# Altium schematic symbol library ML605Library.SCHLIB: 148 symbols (part 2 of 2)
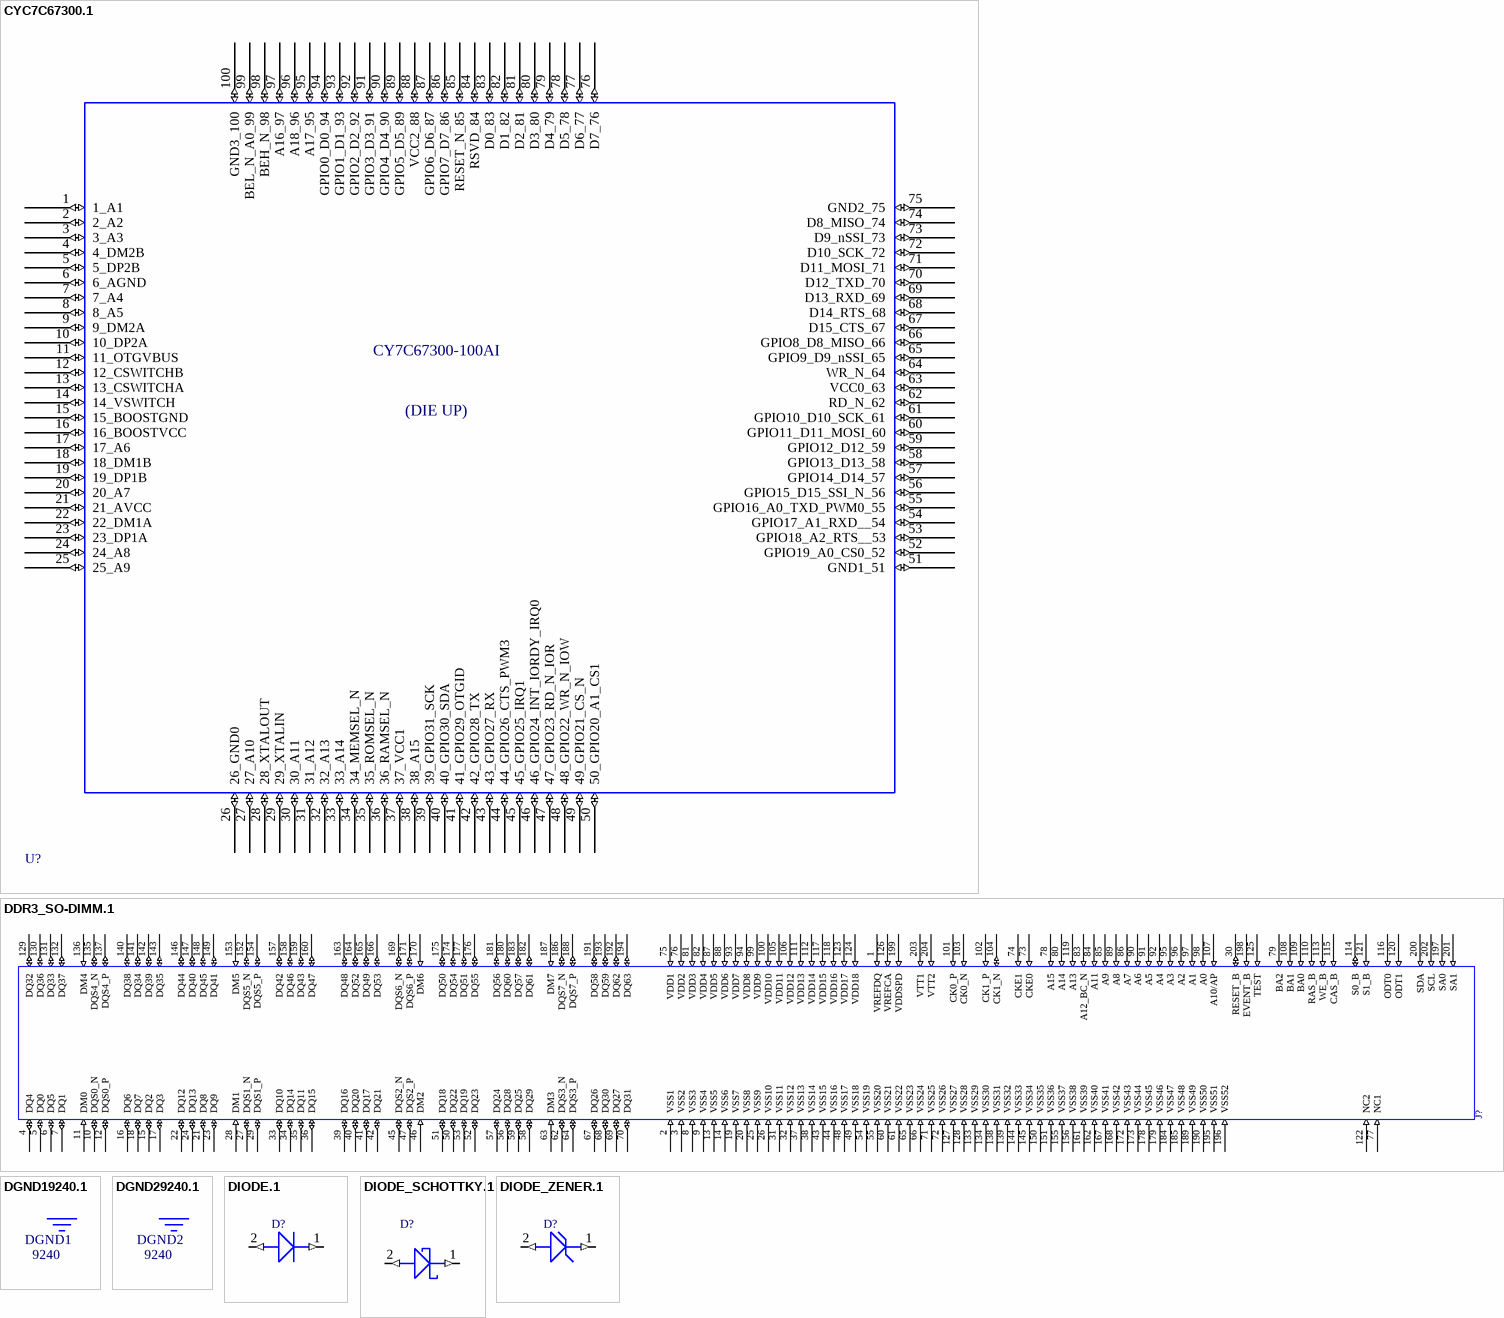
[diagram p25: symbols CYC7C67300.1 to DIODE_ZENER.1]

## CYC7C67300.1
designator U?, comment CY7C67300-TQFP100  (value not drawn)
PKG_TYPE: TQFP-100; LEVEL: STD; DEVICE: CY7C67300-TQFP100
footprint TQFP-100
pins: 1 1_A1 (io), 2 2_A2 (io), 3 3_A3 (io), 4 4_DM2B (io), 5 5_DP2B (io), 6 6_AGND (io), 7 7_A4 (io), 8 8_A5 (io), 9 9_DM2A (io), 10 10_DP2A (io), 11 11_OTGVBUS (io), 12 12_CSWITCHB (io), 13 13_CSWITCHA (io), 14 14_VSWITCH (io), 15 15_BOOSTGND (io), 16 16_BOOSTVCC (io), 17 17_A6 (io), 18 18_DM1B (io), 19 19_DP1B (io), 20 20_A7 (io), 21 21_AVCC (io), 22 22_DM1A (io), 23 23_DP1A (io), 24 24_A8 (io), 25 25_A9 (io), 26 26_GND0 (io), 27 27_A10 (io), 28 28_XTALOUT (io), 29 29_XTALIN (io), 30 30_A11 (io), 31 31_A12 (io), 32 32_A13 (io), 33 33_A14 (io), 34 34_MEMSEL_N (io), 35 35_ROMSEL_N (io), 36 36_RAMSEL_N (io), 37 37_VCC1 (io), 38 38_A15 (io), 39 39_GPIO31_SCK (io), 40 40_GPIO30_SDA (io), 41 41_GPIO29_OTGID (io), 42 42_GPIO28_TX (io), 43 43_GPIO27_RX (io), 44 44_GPIO26_CTS_PWM3 (io), 45 45_GPIO25_IRQ1 (io), 46 46_GPIO24_INT_IORDY_IRQ0 (io), 47 47_GPIO23_RD_N_IOR (io), 48 48_GPIO22_WR_N_IOW (io), 49 49_GPIO21_CS_N (io), 50 50_GPIO20_A1_CS1 (io), 51 GND1_51 (io), 52 GPIO19_A0_CS0_52 (io), 53 GPIO18_A2_RTS__53 (io), 54 GPIO17_A1_RXD__54 (io), 55 GPIO16_A0_TXD_PWM0_55 (io), 56 GPIO15_D15_SSI_N_56 (io), 57 GPIO14_D14_57 (io), 58 GPIO13_D13_58 (io), 59 GPIO12_D12_59 (io), 60 GPIO11_D11_MOSI_60 (io), 61 GPIO10_D10_SCK_61 (io), 62 RD_N_62 (io), 63 VCC0_63 (io), 64 WR_N_64 (io), 65 GPIO9_D9_nSSI_65 (io), 66 GPIO8_D8_MISO_66 (io), 67 D15_CTS_67 (io), 68 D14_RTS_68 (io), 69 D13_RXD_69 (io), 70 D12_TXD_70 (io), 71 D11_MOSI_71 (io), 72 D10_SCK_72 (io), 73 D9_nSSI_73 (io), 74 D8_MISO_74 (io), 75 GND2_75 (io), 76 D7_76 (io), 77 D6_77 (io), 78 D5_78 (io), 79 D4_79 (io), 80 D3_80 (io), 81 D2_81 (io), 82 D1_82 (io), 83 D0_83 (io), 84 RSVD_84 (io), 85 RESET_N_85 (io), 86 GPIO7_D7_86 (io), 87 GPIO6_D6_87 (io), 88 VCC2_88 (io), 89 GPIO5_D5_89 (io), 90 GPIO4_D4_90 (io), 91 GPIO3_D3_91 (io), 92 GPIO2_D2_92 (io), 93 GPIO1_D1_93 (io), 94 GPIO0_D0_94 (io), 95 A17_95 (io), 96 A18_96 (io), 97 A16_97 (io), 98 BEH_N_98 (io), 99 BEL_N_A0_99 (io), 100 GND3_100 (io)
text: CY7C67300-100AI; (DIE UP)

## DDR3_SO-DIMM.1
designator J?, comment DDR3_SO-DIMM  (value not drawn)
LEVEL: STD; MANF_P/N: AS0A626-U2SN-7F; MANF: FOXCONN; PKG_TYPE: DDR3_SO-DIMM; DEVICE: DDR3_SO-DIMM; DATASHEET: \\FENPHEN\AFX\AFX\BOARD_PROJECTS\LIBRARY\DATASHEETS\CONNECTOR\AS0A626-U2SN-7F_317-0000-1243_D.PDF
footprint DDR3_SO-DIMM
pins: 1 VREFDQ (in), 2 VSS1 (in), 3 VSS2 (in), 4 DQ4 (io), 5 DQ0 (io), 6 DQ5 (io), 7 DQ1 (io), 8 VSS3 (in), 9 VSS4 (in), 10 DQS0_N (io), 11 DM0 (in), 12 DQS0_P (io), 13 VSS5 (in), 14 VSS6 (in), 15 DQ2 (io), 16 DQ6 (io), 17 DQ3 (io), 18 DQ7 (io), 19 VSS7 (in), 20 VSS8 (in), 21 DQ8 (io), 22 DQ12 (io), 23 DQ9 (io), 24 DQ13 (io), 25 VSS9 (in), 26 VSS10 (in), 27 DQS1_N (io), 28 DM1 (in), 29 DQS1_P (io), 30 RESET_B (io), 31 VSS11 (in), 32 VSS12 (in), 33 DQ10 (io), 34 DQ14 (io), 35 DQ11 (io), 36 DQ15 (io), 37 VSS13 (in), 38 VSS14 (in), 39 DQ16 (io), 40 DQ20 (io), 41 DQ17 (io), 42 DQ21 (io), 43 VSS15 (in), 44 VSS16 (in), 45 DQS2_N (io), 46 DM2 (in), 47 DQS2_P (io), 48 VSS17 (in), 49 VSS18 (in), 50 DQ22 (io), 51 DQ18 (io), 52 DQ23 (io), 53 DQ19 (io), 54 VSS19 (in), 55 VSS20 (in), 56 DQ28 (io), 57 DQ24 (io), 58 DQ29 (io), 59 DQ25 (io), 60 VSS21 (in), 61 VSS22 (in), 62 DQS3_N (io), 63 DM3 (in), 64 DQS3_P (io), 65 VSS23 (in), 66 VSS24 (in), 67 DQ26 (io), 68 DQ30 (io), 69 DQ27 (io), 70 DQ31 (io), 71 VSS25 (in), 72 VSS26 (in), 73 CKE0 (in), 74 CKE1 (in), 75 VDD1 (in), 76 VDD2 (in), 77 NC1 (in), 78 A15 (in), 79 BA2 (in), 80 A14 (in), 81 VDD3 (in), 82 VDD4 (in), 83 A12_BC_N (in), 84 A11 (in), 85 A9 (in), 86 A7 (in), 87 VDD5 (in), 88 VDD6 (in), 89 A8 (in), 90 A6 (in), 91 A5 (in), 92 A4 (in), 93 VDD7 (in), 94 VDD8 (in), 95 A3 (in), 96 A2 (in), 97 A1 (in), 98 A0 (in), 99 VDD9 (in), 100 VDD10 (in), 101 CK0_P (in), 102 CK1_P (in), 103 CK0_N (in), 104 CK1_N (io), 105 VDD11 (in), 106 VDD12 (in), 107 A10/AP (in), 108 BA1 (in), 109 BA0 (in), 110 RAS_B (in), 111 VDD13 (in), 112 VDD14 (in), 113 WE_B (in), 114 S0_B (io), 115 CAS_B (in), 116 ODT0 (in), 117 VDD15 (in), 118 VDD16 (in), 119 A13 (in), 120 ODT1 (in), 121 S1_B (in), 122 NC2 (in), 123 VDD17 (in), 124 VDD18 (in), 125 TEST (in), 126 VREFCA (in), 127 VSS27 (in), 128 VSS28 (in), 129 DQ32 (io), 130 DQ36 (io), 131 DQ33 (io), 132 DQ37 (io), 133 VSS29 (in), 134 VSS30 (in), 135 DQS4_N (io), 136 DM4 (in), 137 DQS4_P (io), 138 VSS31 (in), 139 VSS32 (in), 140 DQ38 (io), 141 DQ34 (io), 142 DQ39 (io), 143 DQ35 (io), 144 VSS33 (in), 145 VSS34 (in), 146 DQ44 (io), 147 DQ40 (io), 148 DQ45 (io), 149 DQ41 (io), 150 VSS35 (in), 151 VSS36 (in), 152 DQS5_N (io), 153 DM5 (in), 154 DQS5_P (io), 155 VSS37 (in), 156 VSS38 (in), 157 DQ42 (io), 158 DQ46 (io), 159 DQ43 (io), 160 DQ47 (io), 161 VSS39 (in), 162 VSS40 (in), 163 DQ48 (io), 164 DQ52 (io), 165 DQ49 (io), 166 DQ53 (io), 167 VSS41 (in), 168 VSS42 (in), 169 DQS6_N (io), 170 DM6 (in), 171 DQS6_P (io), 172 VSS43 (in), 173 VSS44 (in), 174 DQ54 (io), 175 DQ50 (io), 176 DQ55 (io), 177 DQ51 (io), 178 VSS45 (in), 179 VSS46 (in), 180 DQ60 (io), 181 DQ56 (io), 182 DQ61 (io), 183 DQ57 (io), 184 VSS47 (in), 185 VSS48 (in), 186 DQS7_N (io), 187 DM7 (in), 188 DQS7_P (io), 189 VSS49 (in), 190 VSS50 (in), 191 DQ58 (io), 192 DQ62 (io), 193 DQ59 (io), 194 DQ63 (io), 195 VSS51 (in), 196 VSS52 (in), 197 SA0 (in), 198 EVENT_B (in), 199 VDDSPD (in), 200 SDA (in), 201 SA1 (in), 202 SCL (in), 203 VTT1 (in), 204 VTT2 (in)

## DGND19240.1
designator *, comment DGND1_9240  (value not drawn)
DEVICE: DGND1_9240; NETNAME: DGND1_9240
text: DGND1; 9240

## DGND29240.1
designator *, comment DGND2_9240  (value not drawn)
DEVICE: DGND2_9240; NETNAME: DGND2_9240
text: DGND2; 9240

## DIODE.1
designator D?, comment DIODE  (value not drawn)
DEVICE: DIODE
pins: 1 CATHODE (out), 2 ANODE (out)

## DIODE_SCHOTTKY.1
designator D?, comment DIODE_SCHOTTKY  (value not drawn)
PKG_TYPE: SOT-23; DEVICE: DIODE_SCHOTTKY
footprint SOT-23
pins: 1 CATHODE (out), 2 ANODE (out)

## DIODE_ZENER.1
designator D?, comment DIODE_ZENER  (value not drawn)
DEVICE: DIODE_ZENER
pins: 1 CATHODE (out), 2 ANODE (out)

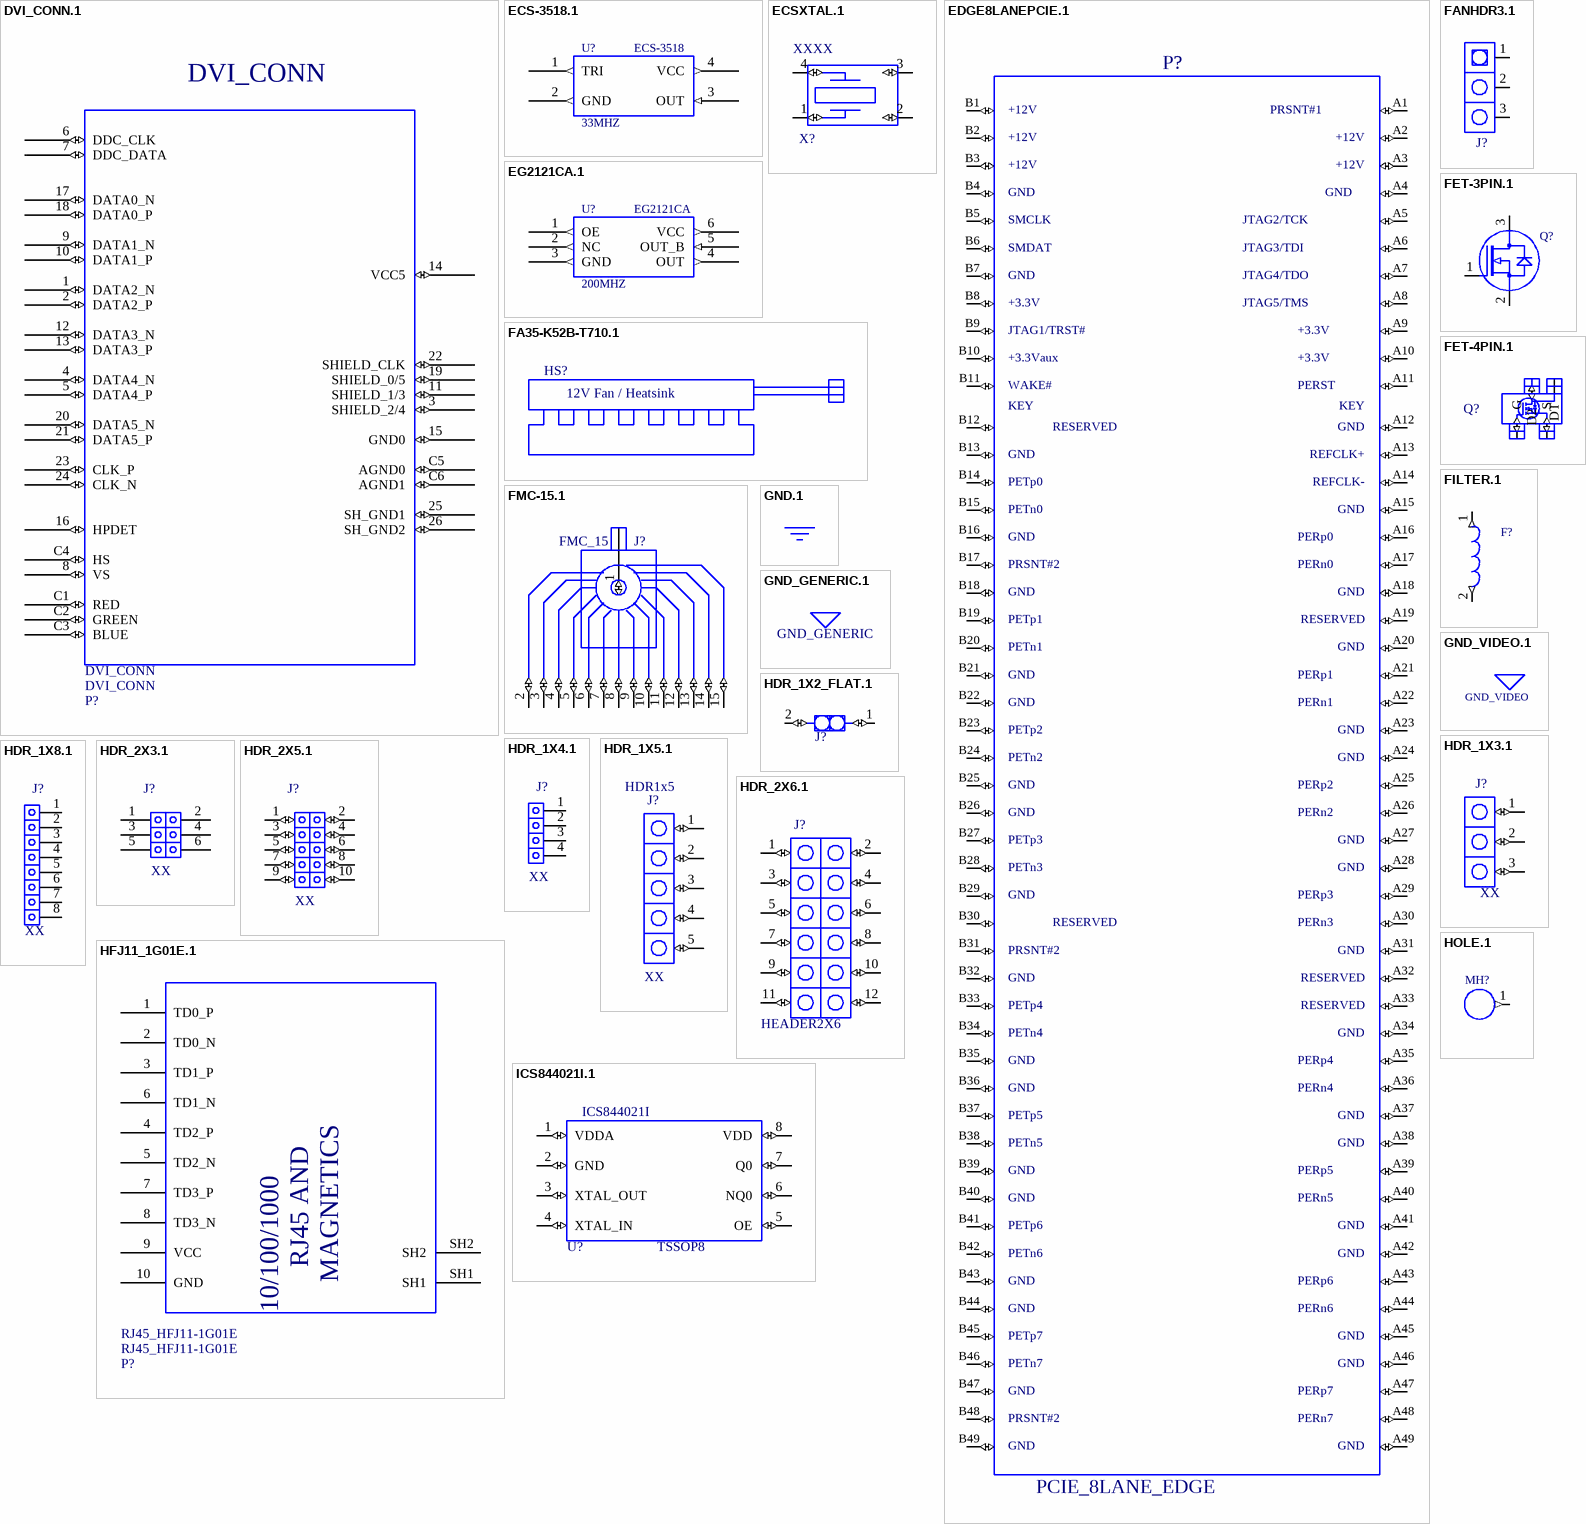
[diagram p20: symbols DVI_CONN.1 to ICS844021I.1]

## DVI_CONN.1
designator P?, comment DVI_CONN
LEVEL: STD; PKG_TYPE: DVI_CONN; DEVICE: DVI_CONN
footprint DVI_CONN
pins: 1 DATA2_N (io), 2 DATA2_P (io), 3 SHIELD_2/4 (io), 4 DATA4_N (io), 5 DATA4_P (io), 6 DDC_CLK (io), 7 DDC_DATA (io), 8 VS (io), 9 DATA1_N (io), 10 DATA1_P (io), 11 SHIELD_1/3 (io), 12 DATA3_N (io), 13 DATA3_P (io), 14 VCC5 (io), 15 GND0 (io), 16 HPDET (io), 17 DATA0_N (io), 18 DATA0_P (io), 19 SHIELD_0/5 (io), 20 DATA5_N (io), 21 DATA5_P (io), 22 SHIELD_CLK (io), 23 CLK_P (io), 24 CLK_N (io), 25 SH_GND1 (io), 26 SH_GND2 (io), C1 RED (io), C2 GREEN (io), C3 BLUE (io), C4 HS (io), C5 AGND0 (io), C6 AGND1 (io)

## ECS-3518.1
designator U?, comment ECS-3518  value 33MHZ
PKG_TYPE: EG2121CA; DEVICE: ECS-3518
footprint EG2121CA
pins: 1 TRI (out), 2 GND (out), 3 OUT (in), 4 VCC (out)

## ECSXTAL.1
designator X?, comment XXXX
VALUE: MHZ?; LEVEL: STD; MANF_PN: XXXX; MANF: XXXX; DEVICE: XXXX; PKG_TYPE: XXXX
footprint XXXX
pins: 1 P1 (io), 2 P2 (io), 3 P3 (io), 4 P4 (io)

## EDGE8LANEPCIE.1
designator P?, comment PCIE_8LANE_EDGE
LEVEL: STD; PKG_TYPE: PCIE_8LANE_EDGE; DEVICE: PCIE_8LANE_EDGE
footprint PCIE_8LANE_EDGE
pins: A1 (io), A2 (io), A3 (io), A4 (io), A5 (io), A6 (io), A7 (io), A8 (io), A9 (io), A10 (io), A11 (io), A12 (io), A13 (io), A14 (io), A15 (io), A16 (io), A17 (io), A18 (io), A19 (io), A20 (io), A21 (io), A22 (io), A23 (io), A24 (io), A25 (io), A26 (io), A27 (io), A28 (io), A29 (io), A30 (io), A31 (io), A32 (io), A33 (io), A34 (io), A35 (io), A36 (io), A37 (io), A38 (io), A39 (io), A40 (io), A41 (io), A42 (io), A43 (io), A44 (io), A45 (io), A46 (io), A47 (io), A48 (io), A49 (io), B1 (io), B2 (io), B3 (io), B4 (io), B5 (io), B6 (io), B7 (io), B8 (io), B9 (io), B10 (io), B11 (io), B12 (io), B13 (io), B14 (io), B15 (io), B16 (io), B17 (io), B18 (io), B19 (io), B20 (io), B21 (io), B22 (io), B23 (io), B24 (io), B25 (io), B26 (io), B27 (io), B28 (io), B29 (io), B30 (io), B31 (io), B32 (io), B33 (io), B34 (io), B35 (io), B36 (io), B37 (io), B38 (io), B39 (io), B40 (io), B41 (io), B42 (io), B43 (io), B44 (io), B45 (io), B46 (io), B47 (io), B48 (io), B49 (io)
text: +12V; PRSNT#1; GND; SMCLK; JTAG2/TCK; SMDAT; JTAG3/TDI; JTAG4/TDO; +3.3V; JTAG5/TMS; JTAG1/TRST#; +3.3Vaux; WAKE#; PERST; KEY; RESERVED; REFCLK+; PETp0; REFCLK-; PETn0; PERp0; PRSNT#2; PERn0; PETp1; PETn1; PERp1; PERn1; PETp2; PETn2; PERp2; PERn2; PETp3; PETn3; PERp3; PERn3; PETp4; PETn4; PERp4; PERn4; PETp5; PETn5; PERp5; PERn5; PETp6; PETn6; PERp6; PERn6; PETp7; PETn7; PERp7; PERn7

## EG2121CA.1
designator U?, comment EG2121CA  value 200MHZ
MANUF_P/N: EG2121CA; PKG_TYPE: EG2121CA; DEVICE: EG2121CA
footprint EG2121CA
pins: 1 OE (out), 2 NC (out), 3 GND (out), 4 OUT (out), 5 OUT_B (in), 6 VCC (out)

## FA35-K52B-T710.1
designator HS?, comment FAN_HEATSINK  (value not drawn)
CLASS: MECHANICAL; MANF_P/N: FA35-K52B-T710; MANF: RADIAN; LEVEL: STD; DATASHEET: \\FENPHEN\AFX\AFX\BOARD_PROJECTS\LIBRARY\DATASHEETS\HEATSINKS\RADIANHEATSINKS_FSERIES.PDF; DEVICE: FAN_HEATSINK; DESC: FAN_HEATSINK
text: 12V Fan / Heatsink

## FANHDR3.1
designator J?, comment FANHDR3  (value not drawn)
MANF: MOLEX; LEVEL: STD; MANF_P/N: 22-11-2032; MANF_PN: 22-11-2032; PKG_TYPE: FANHDR3; DEVICE: FANHDR3
footprint FANHDR3
pins: 1 P1 (io), 2 P2 (io), 3 P3 (io)

## FET-3PIN.1
designator Q?, comment FET-3PIN  (value not drawn)
DEVICE: FET-3PIN
pins: 1 GATE, 2 SOURCE, 3 DRAIN

## FET-4PIN.1
designator Q?, comment NDT3055L  (value not drawn)
VALUE: IN?; PKG_TYPE: SOT223; DEVICE: NDT3055L
footprint SOT223
pins: 1 G (io), 2 D2 (io), 3 S (io), 4 DT (io)
text: 0

## FILTER.1
designator F?, comment FILTER  (value not drawn)
DEVICE: FILTER
pins: 1 (out), 2 (out)

## FMC-15.1
designator J?, comment FMC_15
LEVEL: STD; PKG_TYPE: FMC_15; DEVICE: FMC_15
footprint FMC_15
pins: 1 (io), 2 (io), 3 (io), 4 (io), 5 (io), 6 (io), 7 (io), 8 (io), 9 (io), 10 (io), 11 (io), 12 (io), 13 (io), 14 (io), 15 (io)

## GND.1
designator *  (value not drawn)
NETNAME: GND

## GND_GENERIC.1
designator *, comment GND_GENERIC
VOLTAGE: ?V; PKG_TYPE: XXXX; VALUE: UF?; DEVICE: GND_GENERIC; MANFP/N: XXXX; MANF: XXXX; DIST: XXXX; PRICE: XXXX; TOLERANCE: XXXX; NETNAME: GND_GENERIC
footprint XXXX

## GND_VIDEO.1
designator *, comment GND_VIDEO
VOLTAGE: ?V; PKG_TYPE: XXXX; VALUE: UF?; DEVICE: GND_VIDEO; MANFP/N: XXXX; MANF: XXXX; DIST: XXXX; PRICE: XXXX; TOLERANCE: XXXX; NETNAME: GND_VIDEO
footprint XXXX

## HDR_1X2_FLAT.1
designator J?, comment HDR_1X2  (value not drawn)
MANF: SULLINS ELECTRONICS CORP.; MANF_P/N: PBC36DAAN; LEVEL: STD; PKG_TYPE: HDR_1X2; DEVICE: HDR_1X2
footprint HDR_1X2
pins: 1 P1 (io), 2 P2 (io)

## HDR_1X3.1
designator J?, comment value XX  (hidden comment: HDR_1X3)
LEVEL: STD; DEVICE: HDR_1X3; PKG_TYPE: HDR_1X3
footprint HDR_1X3
pins: 1 P1 (io), 2 P2 (io), 3 P3 (io)

## HDR_1X4.1
designator J?, comment value XX  (hidden comment: HDR_1X4)
LEVEL: STD; PKG_TYPE: HDR_1X4; PART_SPEC: HDR_1X4; DEVICE: HDR_1X4
footprint HDR_1X4
pins: 1, 2, 3, 4

## HDR_1X5.1
designator J?, comment value XX  (hidden comment: HDR_1X5)
LEVEL: STD; DEVICE: HDR_1X5
pins: 1 P1 (io), 2 P2 (io), 3 P3 (io), 4 P4 (io), 5 P5 (io)
text: HDR1x5

## HDR_1X8.1
designator J?, comment value XX  (hidden comment: HDR_1X8)
LEVEL: STD; PART_SPEC: HDR_1X8; DEVICE: HDR_1X8
pins: 1, 2, 3, 4, 5, 6, 7, 8

## HDR_2X3.1
designator J?, comment value XX  (hidden comment: HDR_2X3)
PART_SPEC: HDR2X3; LEVEL: STD; PKG_TYPE: HDR_2X3; DEVICE: HDR_2X3
footprint HDR_2X3
pins: 1, 2, 3, 4, 5, 6

## HDR_2X5.1
designator J?, comment value XX  (hidden comment: HDR_2X5)
PART_SPEC: HDR2X5; LEVEL: STD; PKG_TYPE: HDR_2X5; DEVICE: HDR_2X5
footprint HDR_2X5
pins: 1 P1 (io), 2 P2 (io), 3 P3 (io), 4 P4 (io), 5 P5 (io), 6 P6 (io), 7 P7 (io), 8 P8 (io), 9 P9 (io), 10 P10 (io)

## HDR_2X6.1
designator J?, comment HEADER2X6
MANF_PN: XXX; LEVEL: STD; PKG_TYPE: HDR_2X6; MANF: XXX; DEVICE: HEADER2X6
footprint HDR_2X6
pins: 1 P1 (io), 2 P2 (io), 3 P3 (io), 4 P4 (io), 5 P5 (io), 6 P6 (io), 7 P7 (io), 8 P8 (io), 9 P9 (io), 10 P10 (io), 11 P11 (io), 12 P12 (io)

## HFJ11_1G01E.1
designator P?, comment RJ45_HFJ11-1G01E
LEVEL: STD; DEVICE: RJ45_HFJ11-1G01E; PKG_TYPE: RJ45_HFJ11-1G01E
footprint RJ45_HFJ11-1G01E
pins: 1 TD0_P, 2 TD0_N, 3 TD1_P, 4 TD2_P, 5 TD2_N, 6 TD1_N, 7 TD3_P, 8 TD3_N, 9 VCC, 10 GND, SH1, SH2
text: RJ45 AND; MAGNETICS; 10/100/1000

## HOLE.1
designator MH?, comment HOLE  (value not drawn)
DEVICE: HOLE
pins: 1 (out)

## ICS844021I.1
designator U?, comment ICS844021I  PKG_TYPE: TSSOP8
LEVEL: STD; PART_SPEC: ICS844021I; DEVICE: ICS844021I
footprint TSSOP8
pins: 1 VDDA (io), 2 GND (io), 3 XTAL_OUT (io), 4 XTAL_IN (io), 5 OE (io), 6 NQ0 (io), 7 Q0 (io), 8 VDD (io)

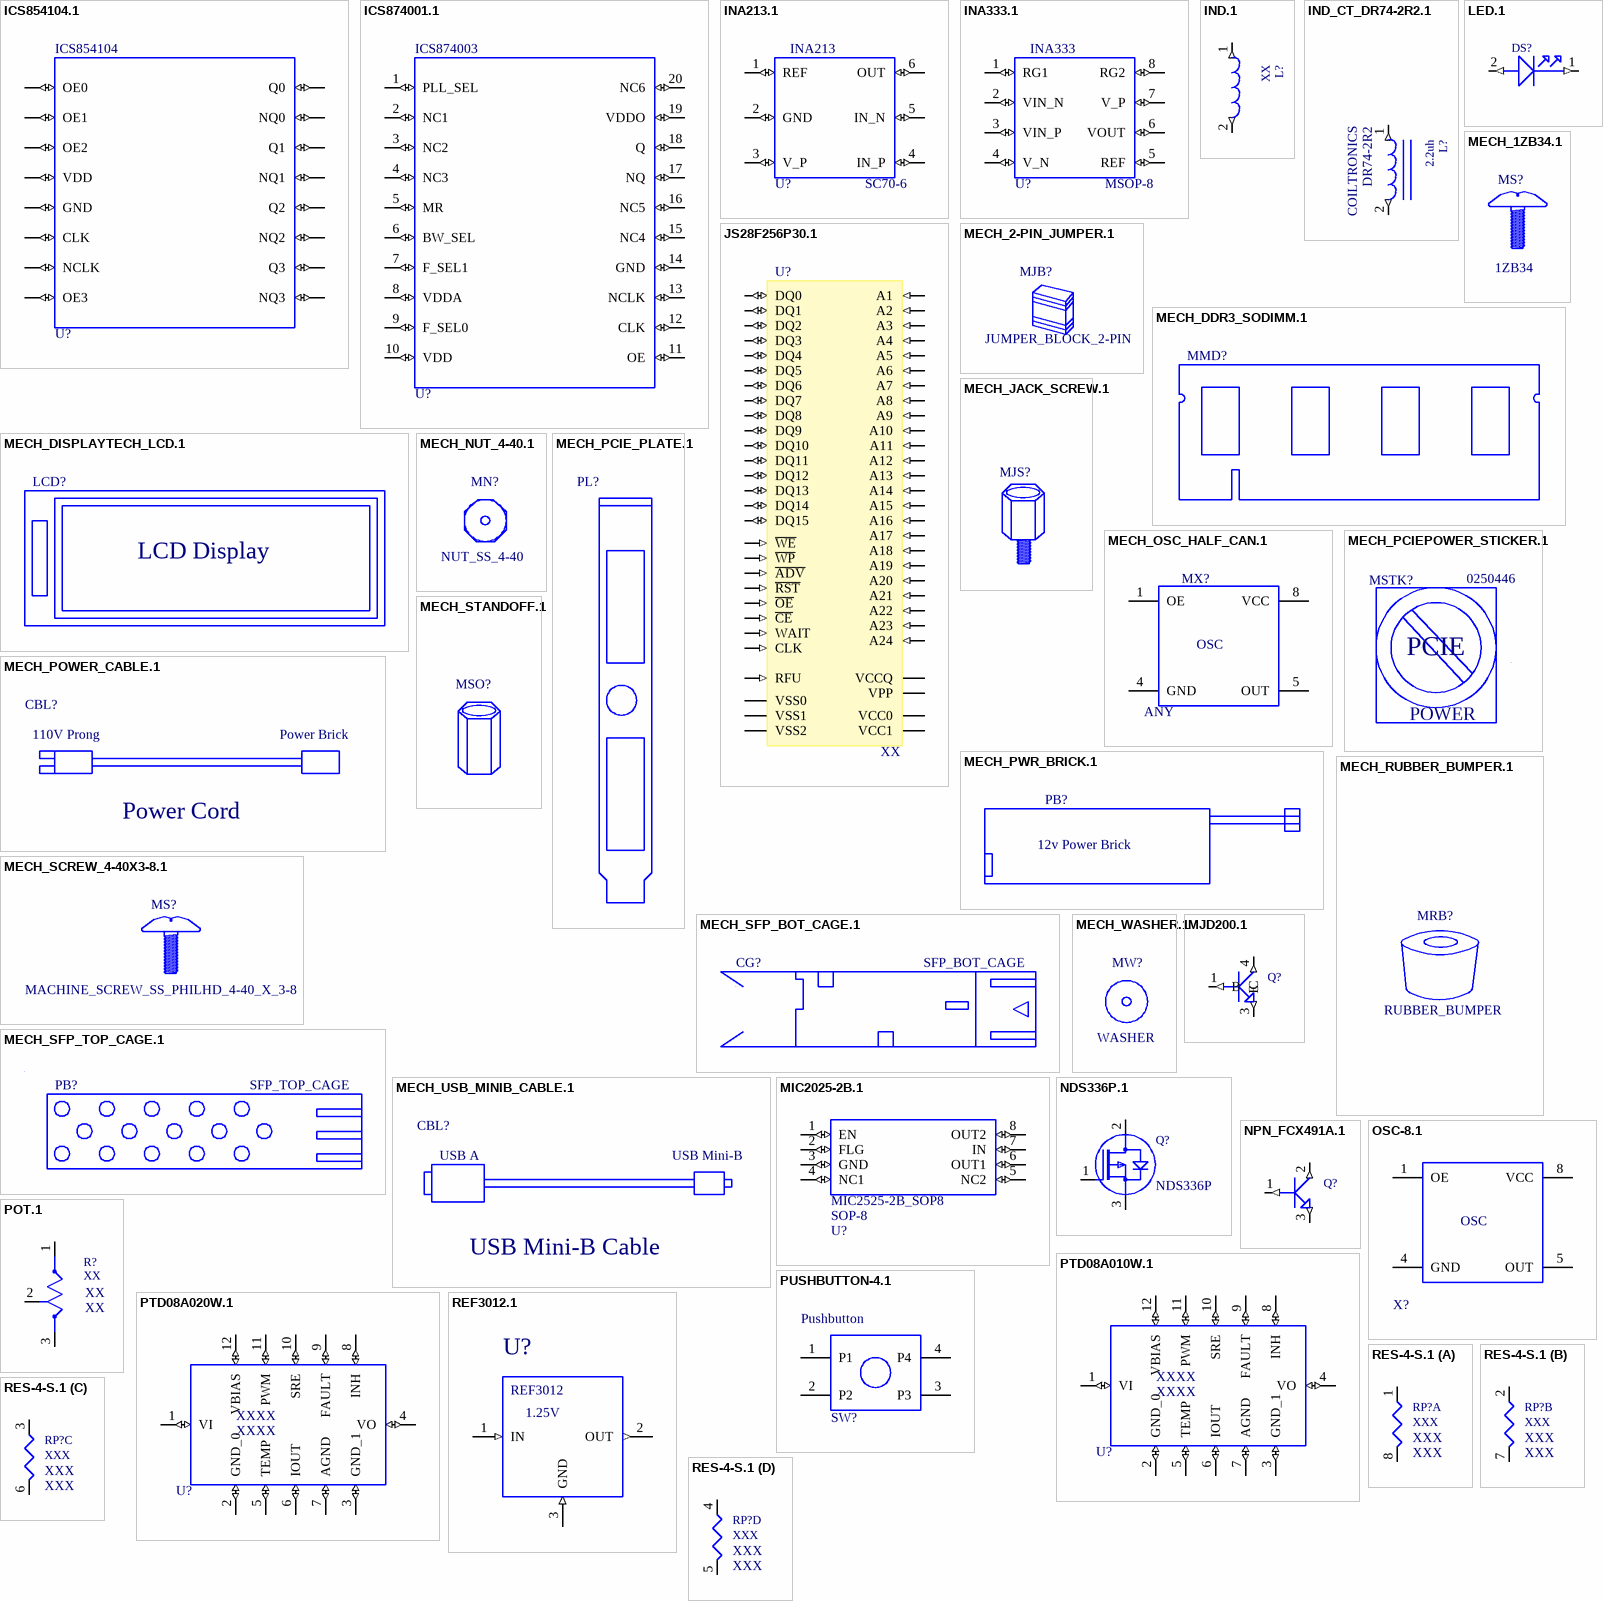
[diagram p21: symbols ICS854104.1 to RES-4-S.1]

## ICS854104.1
designator U?, comment ICS854104
MANF_PN: ICS854104AGLFT; MANF: ICS; PKG_TYPE: TSSOP-16; LEVEL: STD; DEVICE: ICS854104
footprint TSSOP-16
pins: 1 OE0 (io), 2 OE1 (io), 3 OE2 (io), 4 VDD (io), 5 GND (io), 6 CLK (io), 7 NCLK (io), 8 OE3 (io), 9 NQ3 (io), 10 Q3 (io), 11 NQ2 (io), 12 Q2 (io), 13 NQ1 (io), 14 Q1 (io), 15 NQ0 (io), 16 Q0 (io)

## ICS874001.1
designator U?, comment ICS874003
MANF_P/N: ICS874003BG-05LF; MANF: ICS; LEVEL: STD; PKG_TYPE: TSSOP-20; DEVICE: ICS874003
footprint TSSOP-20
pins: 1 PLL_SEL (io), 2 NC1 (io), 3 NC2 (io), 4 NC3 (io), 5 MR (io), 6 BW_SEL (io), 7 F_SEL1 (io), 8 VDDA (io), 9 F_SEL0 (io), 10 VDD (io), 11 OE (io), 12 CLK (io), 13 NCLK (io), 14 GND (io), 15 NC4 (io), 16 NC5 (io), 17 NQ (io), 18 Q (io), 19 VDDO (io), 20 NC6 (io)

## INA213.1
designator U?, comment INA213  PKG_TYPE: SC70-6
MANF_P/N: INA213AIDCKT; LEVEL: STD; DEVICE: INA213
footprint SC70-6
pins: 1 REF (io), 2 GND (io), 3 V_P (io), 4 IN_P (io), 5 IN_N (io), 6 OUT (io)

## INA333.1
designator U?, comment INA333  PKG_TYPE: MSOP-8
LEVEL: STD; DEVICE: INA333
footprint MSOP-8
pins: 1 RG1 (io), 2 VIN_N (io), 3 VIN_P (io), 4 V_N (io), 5 REF (io), 6 VOUT (io), 7 V_P (io), 8 RG2 (io)

## IND.1
designator L?, comment value XX  (hidden comment: INDUCTOR)
DEVICE: INDUCTOR
pins: 1 (out), 2 (out)

## IND_CT_DR74-2R2.1
designator L?, comment value 2.2uh  PART_NUM: DR74-2R2  MANF: COILTRONICS  (hidden comment: IND_CT_DR74-2R2)
POWER_INDUCTOR_SMT; LEVEL: STD; BUILD: ALL; PKG_TYPE: IND_CT_DR74-2R2; DESC: POWER_INDUCTOR_SMT; DEVICE: IND_CT_DR74-2R2
footprint IND_CT_DR74-2R2
pins: 1 (out), 2 (out)

## JS28F256P30.1
designator U?, comment value XX  (hidden comment: JS28F256P30)
PKG_TYPE: TSOP50P20X14-56; LEVEL: STD; DEVICE: JS28F256P30
footprint TSOP50P20X14-56
pins: 1 A16 (in), 2 A15 (in), 3 A14 (in), 4 A13 (in), 5 A12 (in), 6 A11 (in), 7 A10 (in), 8 A9 (in), 9 A23 (in), 10 A22 (in), 11 A21 (in), 12 VSS0, 13 VCC0, 14 ~{WE} (in), 15 ~{WP} (in), 16 A20 (in), 17 A19 (in), 18 A18 (in), 19 A8 (in), 20 A7 (in), 21 A6 (in), 22 A5 (in), 23 A4 (in), 24 A3 (in), 25 A2 (in), 26 A24 (in), 27 RFU (in), 28 VSS1, 29 A1 (in), 30 ~{CE} (in), 31 VSS2, 32 ~{OE} (in), 33 VCC1, 34 DQ0 (io), 35 DQ8 (io), 36 DQ1 (io), 37 DQ9 (io), 38 VCCQ, 39 DQ2 (io), 40 DQ10 (io), 41 DQ3 (io), 42 DQ11 (io), 43 VPP, 44 ~{RST} (in), 45 CLK (in), 46 ~{ADV} (in), 47 DQ4 (io), 48 DQ12 (io), 49 DQ5 (io), 50 DQ13 (io), 51 DQ6 (io), 52 DQ14 (io), 53 DQ7 (io), 54 DQ15 (io), 55 A17 (in), 56 WAIT (in)

## LED.1
designator DS?, comment LED  (value not drawn)
DEVICE: LED
pins: 1 (out), 2 (out)

## MECH_1ZB34.1
designator MS?, comment MANF_P/N: 1ZB34  (hidden comment: MACHINE_SCREW)
MANF: GRAINGER; LEVEL: STD; CLASS: MECHANICAL; DEVICE: MACHINE_SCREW

## MECH_2-PIN_JUMPER.1
designator MJB?, comment JUMPER_BLOCK_2-PIN
CLASS: MECHANICAL; MANF_P/N: MSDA-G; MANF: ADAMTECH; LEVEL: STD; DIST: PSC ELECTRONICS; DESC: JUMPER_BLOCK_2-PIN; DIST_P/N: MSDA-G; DEVICE: JUMPER_BLOCK_2-PIN

## MECH_DDR3_SODIMM.1
designator MMD?, comment DDR3_SODIMM  (value not drawn)
CLASS: MECHANICAL; MANF_P/N: MT4JSF6464HY-1G 1B1; MANF: MICRON; LEVEL: STD; DATASHEET: \\FENPHEN\AFX\AFX\BOARD_PROJECTS\LIBRARY\DATASHEETS\IC\MEMORY\JSF4C64_64X64HY.PDF; DEVICE: DDR3_SODIMM; DESC: DDR3_SODIMM

## MECH_DISPLAYTECH_LCD.1
designator LCD?, comment LCD_DISPLAY  (value not drawn)
LCD DISPLAY; CLASS: MECHANICAL; MANF_P/N: S162D BA BC; MANF: DISPLAYTECH; LEVEL: STD; DATASHEET: \\FENPHEN\AFX\AFX\BOARD_PROJECTS\LIBRARY\DATASHEETS\DISPLAY\S162D-V20.PDF; DEVICE: LCD_DISPLAY; DESC: LCD DISPLAY
text: LCD Display

## MECH_JACK_SCREW.1
designator MJS?, comment JACK_SCREW  (value not drawn)
MANF: KEYSTONE; MANF_P/N: 7230; LEVEL: STD; CLASS: MECHANICAL; DEVICE: JACK_SCREW

## MECH_NUT_4-40.1
designator MN?, comment NUT_SS_4-40
CLASS: MECHANICAL; MANF_P/N: ANY; LEVEL: STD; MANF: ANY; DIST: ANY; DESC: NUT_SS_4-40; DIST_P/N: ANY; DEVICE: NUT_SS_4-40

## MECH_OSC_HALF_CAN.1
designator MX?, comment MANF_P/N: ANY  (hidden comment: OSCILLATOR)
OSC_4-PIN_HALF_CAN; CLASS: MECHANICAL; PKG_TYPE: DIP8; LEVEL: STD; VOLTAGE: 3.3V; VALUE: VAL; MANF: ANY; DEVICE: OSCILLATOR; DESC: OSC_4-PIN_HALF_CAN
footprint DIP8
pins: 1 OE, 4 GND, 5 OUT, 8 VCC
text: OSC

## MECH_PCIE_PLATE.1
designator PL?, comment PCIE_BACKPLATE  (value not drawn)
PCIE BACK PLATE; CLASS: MECHANICAL; MANF_P/N: XXX; LEVEL: STD; DEVICE: PCIE_BACKPLATE; MANF: XXX; DESC: PCIE BACK PLATE

## MECH_PCIEPOWER_STICKER.1
designator MSTK?, comment MANF_P/N: 0250446  (hidden comment: STICKER)
PCIE POWER STICKER; MANF: XILINX; CLASS: MECHANICAL; LEVEL: STD; DEVICE: STICKER; DESC: PCIE POWER STICKER
text: PCIE; POWER

## MECH_POWER_CABLE.1
designator CBL?, comment POWER_CORD  (value not drawn)
CLASS: MECHANICAL; MANF_P/N: ANY; LEVEL: STD; DEVICE: POWER_CORD; MANF: ANY; DESC: POWER_CORD
text: 110V Prong; Power Brick; Power Cord

## MECH_PWR_BRICK.1
designator PB?, comment POWER_BRICK  (value not drawn)
CLASS: MECHANICAL; MANF_P/N: PW174KB1251FXX; MANF: XXX; LEVEL: STD; DATASHEET: \\FENPHEN\AFX\AFX\BOARD_PROJECTS\LIBRARY\DATASHEETS\MISC\20061206033664282113038_PW174.PDF; DEVICE: POWER_BRICK; DESC: POWER_BRICK
text: 12v Power Brick

## MECH_RUBBER_BUMPER.1
designator MRB?, comment RUBBER_BUMPER
LEVEL: STD; CLASS: MECHANICAL; DEVICE: RUBBER_BUMPER

## MECH_SCREW_4-40X3-8.1
designator MS?, comment MACHINE_SCREW_4-40  (value not drawn)
MACHINE_SCREW_SS_PHILHD_4-40_X_3-8; MANF_P/N: ANY; LEVEL: STD; CLASS: MECHANICAL; MANF: ANY; DEVICE: MACHINE_SCREW_4-40; DESC: MACHINE_SCREW_SS_PHILHD_4-40_X_3-8

## MECH_SFP_BOT_CAGE.1
designator CG?, comment SFP_BOT_CAGE  (value not drawn)
CLASS: MECHANICAL; MANF_P/N: 6367034-1; MANF: TYCO; LEVEL: STD; DEVICE: SFP_BOT_CAGE; DESC: SFP_BOT_CAGE

## MECH_SFP_TOP_CAGE.1
designator PB?, comment SFP_TOP_CAGE
CLASS: MECHANICAL; MANF_P/N: 6367035-1; MANF: TYCO; LEVEL: STD; DATASHEET: \\FENPHEN\AFX\AFX\BOARD_PROJECTS\LIBRARY\DATASHEETS\MISC\ENG_CD_6367035_A.PDF; DESC: SFP_TOP_CAGE; DEVICE: SFP_TOP_CAGE

## MECH_STANDOFF.1
designator MSO?, comment STANDOFF_1892  (value not drawn)
MANF: KEYSTONE; MANF_P/N: 1892; LEVEL: STD; CLASS: MECHANICAL; DEVICE: STANDOFF_1892

## MECH_USB_MINIB_CABLE.1
designator CBL?, comment USB_MINIB  (value not drawn)
USB MINI-B CABLE; CLASS: MECHANICAL; MANF_P/N: ANY; LEVEL: STD; DATASHEET: \\FENPHEN\AFX\AFX\BOARD_PROJECTS\LIBRARY\DATASHEETS\MISC\3021009-06.PDF; DEVICE: USB_MINIB; MANF: ANY; DESC: USB MINI-B CABLE
text: USB A; USB Mini-B; USB Mini-B Cable

## MECH_WASHER.1
designator MW?, comment WASHER
CLASS: MECHANICAL; MANF_P/N: 3348; MANF: KEYSTONE ELECTRONICS; LEVEL: STD; DIST: DIGIKEY; DIST_P/N: 3348K-ND; DESC: WASHER; DEVICE: WASHER

## MIC2025-2B.1
designator U?, comment MIC2525-2B_SOP8  PKG_TYPE: SOP-8
LEVEL: STD; PART_SPEC: MIC2525-2B; DEVICE: MIC2525-2B_SOP8
footprint SOP-8
pins: 1 EN (io), 2 FLG (io), 3 GND (io), 4 NC1 (io), 5 NC2 (io), 6 OUT1 (io), 7 IN (io), 8 OUT2 (io)

## MJD200.1
designator Q?, comment NPN  (value not drawn)
DEVICE: NPN
pins: 1 B (out), 3 E (out), 4 C (out)

## NDS336P.1
designator Q?, comment MANF_P/N: NDS336P  (hidden comment: FET-3PIN)
PKG_TYPE: SOT-23; MANF: FAIRCHILD; DEVICE: FET-3PIN
footprint SOT-23
pins: 1 GATE, 2 DRAIN, 3 SOURCE

## NPN_FCX491A.1
designator Q?, comment FCX491A_SOT_89  (value not drawn)
NPN TRANSISTOR; DIST_P/N: FCX491ACT-ND; DIST: DIGIKEY; MANF_P/N: FCX491ATA; MANF: ZETEX; VOLTAGE: 40V; POWER: 1W; DESCRIPTION: MOSFET, FCX491A, N-CHANNEL, SOT_89; PKG_TYPE: SOT_89; DEVICE: FCX491A_SOT_89; PRICE: 0.178; DESC: NPN TRANSISTOR; VALUE: FCX491A
footprint SOT_89
pins: 1 BASE (out), 2 COLLECTOR (out), 3 EMITTER (out)

## OSC-8.1
designator X?, comment OSCILLATOR  (value not drawn)
PKG_TYPE: DIP8; DEVICE: OSCILLATOR
footprint DIP8
pins: 1 OE, 4 GND, 5 OUT, 8 VCC
text: OSC

## POT.1
designator R?, comment value XX  (hidden comment: R_KELVIN)
DEVICE: R_KELVIN; POWER: XX; TOLERANCE: XX
pins: 1, 2, 3

## PTD08A010W.1
designator U?, comment value XXXX  MANF_P/N: XXXX  (hidden comment: PTD08A010W)
LEVEL: STD; PKG_TYPE: EGS_R-PDSS-T12; DEVICE: PTD08A010W
footprint EGS_R-PDSS-T12
pins: 1 VI (io), 2 GND_0 (io), 3 GND_1 (io), 4 VO (io), 5 TEMP (io), 6 IOUT (io), 7 AGND (io), 8 INH (io), 9 FAULT (io), 10 SRE (io), 11 PWM (io), 12 VBIAS (io)

## PTD08A020W.1
designator U?, comment value XXXX  MANF_P/N: XXXX  (hidden comment: PTD08A020W)
LEVEL: STD; PKG_TYPE: EGP_R-PDSS-T12; DEVICE: PTD08A020W
footprint EGP_R-PDSS-T12
pins: 1 VI (io), 2 GND_0 (io), 3 GND_1 (io), 4 VO (io), 5 TEMP (io), 6 IOUT (io), 7 AGND (io), 8 INH (io), 9 FAULT (io), 10 SRE (io), 11 PWM (io), 12 VBIAS (io)

## PUSHBUTTON-4.1
designator SW?, comment PUSHBUTTON_TH  (value not drawn)
DEVICE: PUSHBUTTON_TH; PKG_TYPE: PUSHBUTTON_TH
footprint PUSHBUTTON_TH
pins: 1 P1, 2 P2, 3 P3, 4 P4
text: Pushbutton

## REF3012.1
designator U?, comment value 1.25V  (hidden comment: SOT23-3)
PART_NUM: REF3012AIDBZT; VENDOR: TEXAS INSTRUMENTS; PKG_TYPE: SOT23_3; LEVEL: STD; DEVICE: SOT23-3
footprint SOT23_3
pins: 1 IN (in), 2 OUT (out), 3 GND (in)
text: REF3012

## RES-4-S.1
designator RP?, comment value XXX  TOLERANCE: XXX  (hidden comment: RP4)
PKG_TYPE: 0603X4; CGRP: A; DEVICE: RP4; POWER: XXX
footprint 0603X4
part A pins: 1, 8 2
part B pins: 2 1, 7 2
part C pins: 3 1, 6 2
part D pins: 4 1, 5 2

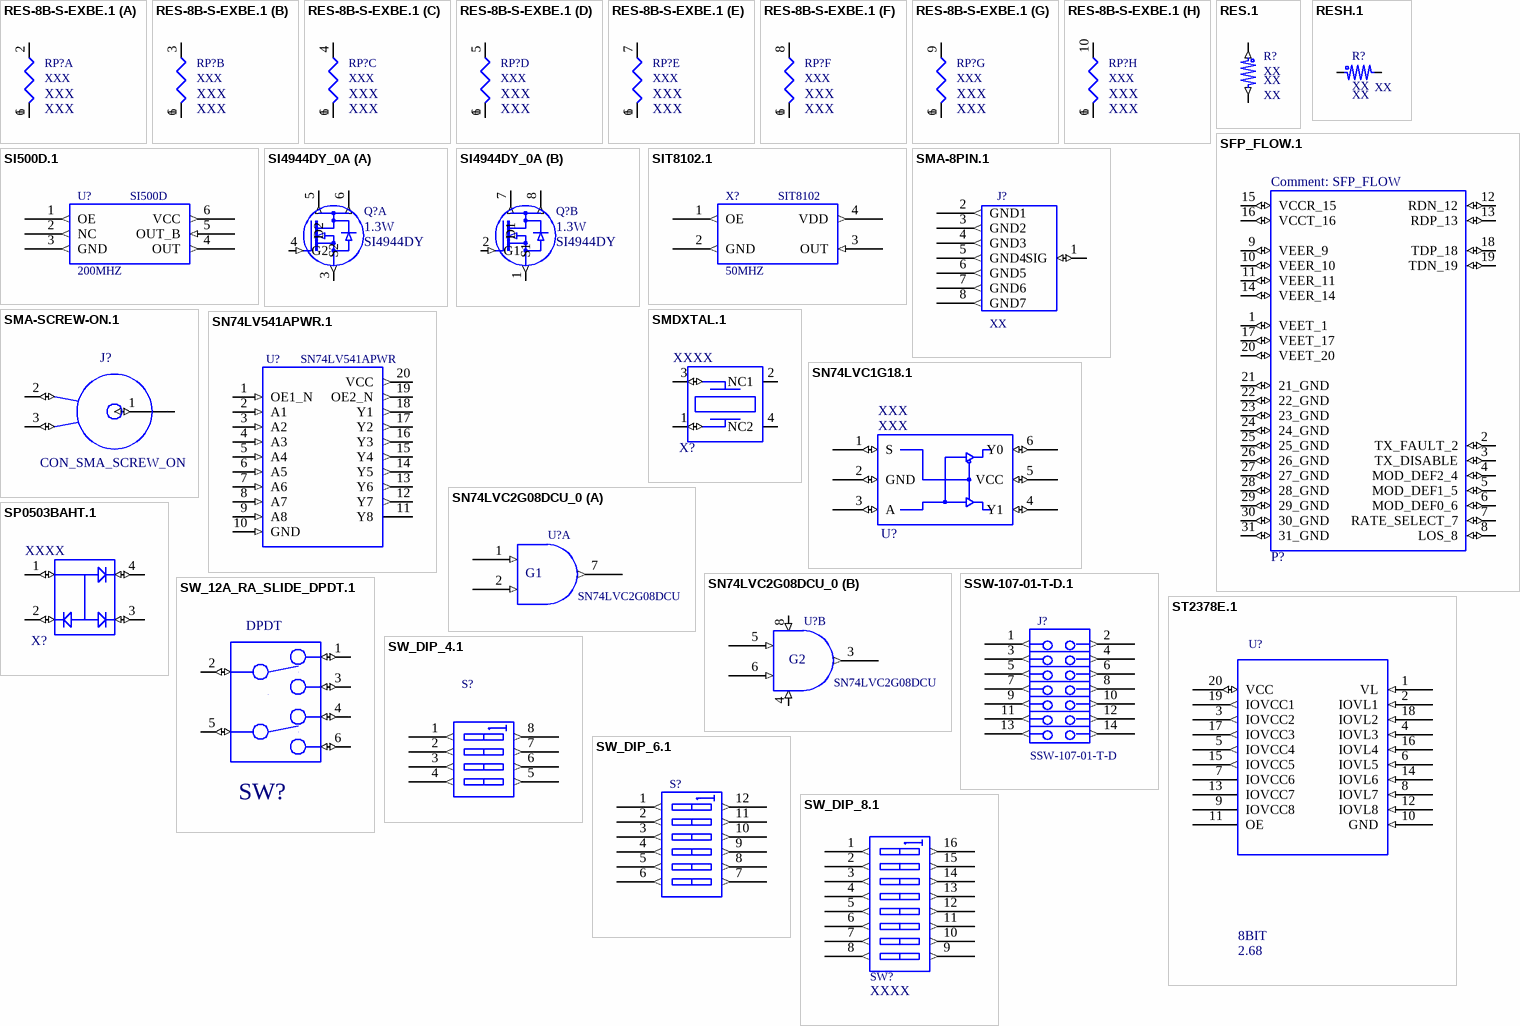
[diagram p22: symbols RES-8B-S-EXBE.1 to SW_DIP_8.1]

## RES-8B-S-EXBE.1
designator RP?, comment value XXX  TOLERANCE: XXX  (hidden comment: RP8_BUS)
PKG_TYPE: 1608X8; DEVICE: RP8_BUS; POWER: XXX
footprint 1608X8
pins on every part: 1 2, 6 2
part A pins: 2 1
part B pins: 3 1
part C pins: 4 1
part D pins: 5 1
part E pins: 7 1
part F pins: 8 1
part G pins: 9 1
part H pins: 10 1

## RES.1
designator R?, comment XX
DEVICE: XX; PKG_TYPE: XX; POWER: XX; VALUE: XX; TOLERANCE: XX
footprint XX
pins: 1 (out), 2 (out)

## RESH.1
designator R?, comment XX
DEVICE: XX; PKG_TYPE: XX; VALUE: XX; TOLERANCE: XX; POWER: XX
footprint XX
pins: 1 (out), 2 (out)

## SFP_FLOW.1
designator P?, comment SFP_FLOW
PKG_TYPE: SFP; LEVEL: STD; DEVICE: SFP_FLOW
footprint SFP
pins: 1 VEET_1 (io), 2 TX_FAULT_2 (io), 3 TX_DISABLE (io), 4 MOD_DEF2_4 (io), 5 MOD_DEF1_5 (io), 6 MOD_DEF0_6 (io), 7 RATE_SELECT_7 (io), 8 LOS_8 (io), 9 VEER_9 (io), 10 VEER_10 (io), 11 VEER_11 (io), 12 RDN_12 (io), 13 RDP_13 (io), 14 VEER_14 (io), 15 VCCR_15 (io), 16 VCCT_16 (io), 17 VEET_17 (io), 18 TDP_18 (io), 19 TDN_19 (io), 20 VEET_20 (io), 21 21_GND (io), 22 22_GND (io), 23 23_GND (io), 24 24_GND (io), 25 25_GND (io), 26 26_GND (io), 27 27_GND (io), 28 28_GND (io), 29 29_GND (io), 30 30_GND (io), 31 31_GND (io)

## SI500D.1
designator U?, comment SI500D  value 200MHZ
PKG_TYPE: OSC_SI500D_6P; MANF_P/N: SI500D; DEVICE: SI500D
footprint OSC_SI500D_6P
pins: 1 OE (out), 2 NC (out), 3 GND (out), 4 OUT (out), 5 OUT_B (in), 6 VCC (out)

## SI4944DY_0A
designator Q?, comment POWER: 1.3W  MANF_P/N: SI4944DY  (hidden comment: DUAL-FET-8PIN)
VALUE: VAL; LEVEL: STD; PKG_TYPE: SO-8; MANF: VISHAY; DEVICE: DUAL-FET-8PIN
part A pins: 3 S2 (out), 4 G2 (in), 5 D2 (out), 6 D1.1 (out)
part B pins: 1 S1 (out), 2 G1 (in), 7 D1 (out), 8 D2.2 (out)

## SIT8102.1
designator X?, comment SIT8102  value 50MHZ
MANF_P/N: SIT8102AN-44-25E-50.00000T; PKG_TYPE: SIT8102_5X7; DEVICE: SIT8102
footprint SIT8102_5X7
pins: 1 OE (out), 2 GND (out), 3 OUT (in), 4 VDD (out)

## SMA-8PIN.1
designator J?, comment XX
DEVICE: XX; VALUE: XX
pins: 1 SIG (io), 2 GND1 (out), 3 GND2 (out), 4 GND3 (out), 5 GND4 (out), 6 GND5 (out), 7 GND6 (out), 8 GND7 (out)

## SMA-SCREW-ON.1
designator J?, comment CON_SMA_SCREW_ON  (value not drawn)
MANF_P/N: 0732511850; PKG_TYPE: SMA_3P_MOLEX_73251185; LEVEL: STD; DEVICE: CON_SMA_SCREW_ON
footprint SMA_3P_MOLEX_73251185
pins: 1 (io), 2 (io), 3 (io)

## SMDXTAL.1
designator X?, comment XXXX
VALUE: MHZ?; LEVEL: STD; DEVICE: XXXX; PKG_TYPE: XXXX
footprint XXXX
pins: 1 P1 (io), 2 NC1 (io), 3 P4 (io), 4 NC2 (io)

## SN74LV541APWR.1
designator U?, comment SN74LV541APWR
PKG_TYPE: TSSOP-20; MANF_P/N: SN74LV541APWR; DEVICE: SN74LV541APWR
footprint TSSOP-20
pins: 1 OE1_N (in), 2 A1 (in), 3 A2 (in), 4 A3 (in), 5 A4 (in), 6 A5 (in), 7 A6 (in), 8 A7 (in), 9 A8 (in), 10 GND (in), 11 Y8, 12 Y7 (out), 13 Y6 (out), 14 Y5 (out), 15 Y4 (out), 16 Y3 (out), 17 Y2 (out), 18 Y1 (out), 19 OE2_N (out), 20 VCC (out)

## SN74LVC1G18.1
designator U?, comment XXX
PART_SPEC: SN74LVC1G126; LEVEL: STD; DEVICE: XXX; PKG_TYPE: XXX
footprint XXX
pins: 1 S (io), 2 GND (io), 3 A (io), 4 Y1 (io), 5 VCC (io), 6 Y0 (io)

## SN74LVC2G08DCU_0
designator U?, comment SN74LVC2G08DCU
VALUE: VAL; MANF: TI; PKG_TYPE: SO-8_R-PDSO-G8; LEVEL: STD; DEVICE: SN74LVC2G08DCU
part A pins: 1 I1-A (in), 2 I1-B (in), 7 O1 (out)
part B pins: 3 O2 (out), 4 GND (in), 5 I2-A (in), 6 I2-B (in), 8 VCC (in)
part A text: G1
part B text: G2

## SP0503BAHT.1
designator X?, comment XXXX
VALUE: MHZ?; LEVEL: STD; MANF_PN: XXXX; MANF: XXXX; DEVICE: XXXX; PKG_TYPE: XXXX
footprint XXXX
pins: 1 P1 (io), 2 P2 (io), 3 P3 (io), 4 P4 (io)

## SSW-107-01-T-D.1
designator J?, comment value SSW-107-01-T-D  (hidden comment: HEADER_7X2_LCD)
PKG_TYPE: HDR_2X7; MANF_P/N: SSW-107-01-T-D; DEVICE: HEADER_7X2_LCD
footprint HDR_2X7
pins: 1 (out), 2 (out), 3 (out), 4 (out), 5 (out), 6 (out), 7 (out), 8 (out), 9 (out), 10 (out), 11 (out), 12 (out), 13 (out), 14 (out)

## ST2378E.1
designator U?, comment value 8BIT  PRICE: 2.68  (hidden comment: IC)
MANF_P/N: ST2378ETTR; DIST_P/N: 497-3730-1-ND; DIST: DIGIKEY; MANF: ST MICROELECTRONICS; PKG_TYPE: TSSOP-20; DEVICE: IC
footprint TSSOP-20
pins: 1 VL (in), 2 IOVL1 (in), 3 IOVCC2 (out), 4 IOVL3 (in), 5 IOVCC4 (out), 6 IOVL5 (in), 7 IOVCC6, 8 IOVL7 (in), 9 IOVCC8, 10 GND (in), 11 OE, 12 IOVL8 (in), 13 IOVCC7, 14 IOVL6 (in), 15 IOVCC5 (out), 16 IOVL4 (in), 17 IOVCC3 (out), 18 IOVL2 (in), 19 IOVCC1 (out), 20 VCC (io)

## SW_12A_RA_SLIDE_DPDT.1
designator SW?, comment 1201_RA  (value not drawn)
PART_ NUMBER: 1201M2S3ABE2; VENDOR: C&K; LEVEL: STD; PKG_TYPE: 1201_RA; DEVICE: 1201_RA
footprint 1201_RA
pins: 1 P1 (io), 2 COM_1 (io), 3 P3 (io), 4 P4 (io), 5 COM_2 (io), 6 P6 (io)
text: DPDT

## SW_DIP_4.1
designator S?, comment SW_DIP-6  (value not drawn)
DEVICE: SW_DIP-6
pins: 1 (out), 2 (out), 3 (out), 4 (out), 5 (out), 6 (out), 7 (out), 8 (out)

## SW_DIP_6.1
designator S?, comment SW_DIP-6  (value not drawn)
DEVICE: SW_DIP-6
pins: 1 A1 (out), 2 A2 (out), 3 A3 (out), 4 A4 (out), 5 A5 (out), 6 A6 (out), 7 B6 (out), 8 B5 (out), 9 B4 (out), 10 B3 (out), 11 B2 (out), 12 B1 (out)

## SW_DIP_8.1
designator SW?, comment MANF_P/N: XXXX  (hidden comment: SW_DIP-8)
DEVICE: SW_DIP-8
pins: 1 A1 (out), 2 A2 (out), 3 A3 (out), 4 A4 (out), 5 A5 (out), 6 A6 (out), 7 A7 (out), 8 A8 (out), 9 B8 (out), 10 B7 (out), 11 B6 (out), 12 B5 (out), 13 B4 (out), 14 B3 (out), 15 B2 (out), 16 B1 (out)

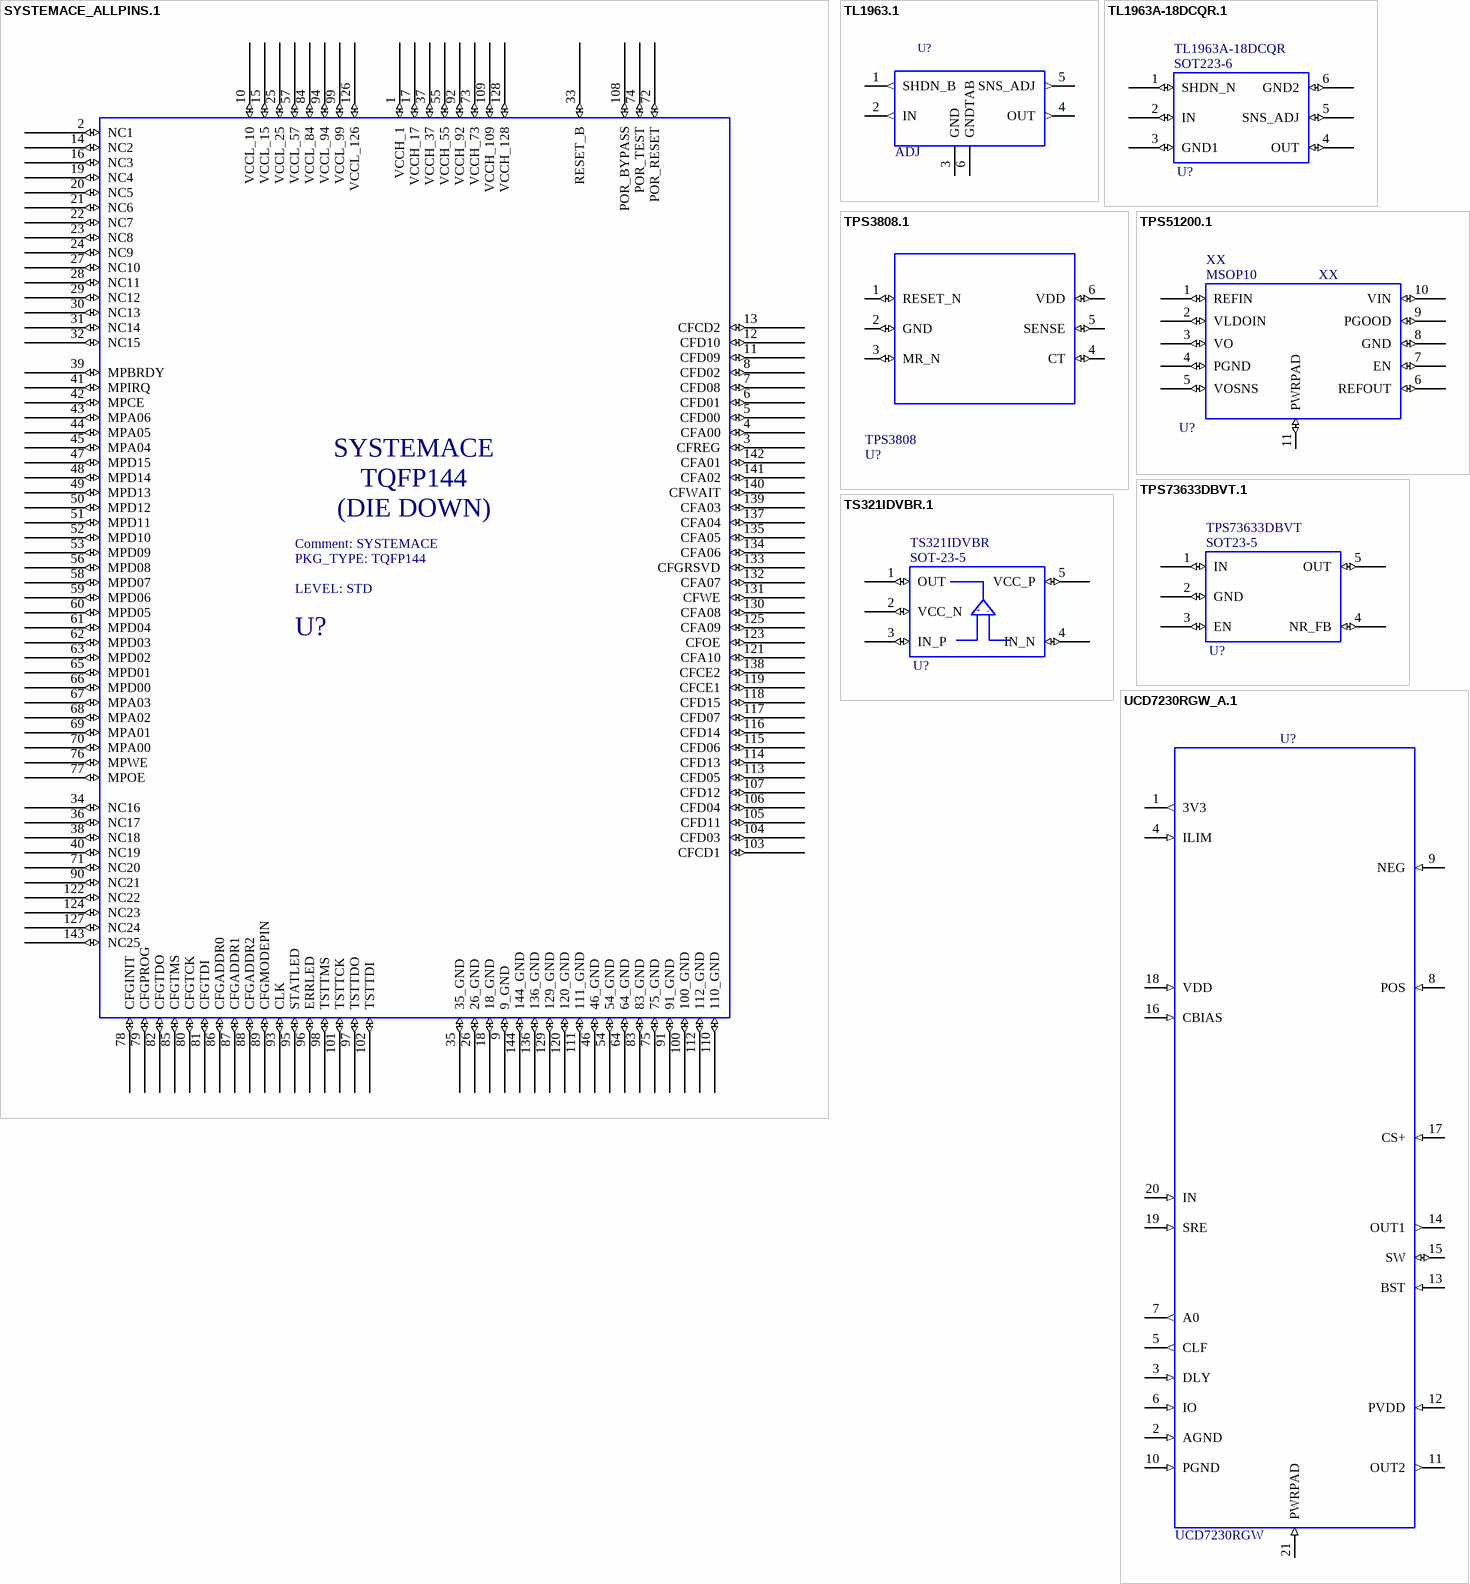
[diagram p23: symbols SYSTEMACE_ALLPINS.1 to UCD7230RGW_A.1]

## SYSTEMACE_ALLPINS.1
designator U?, comment SYSTEMACE  PKG_TYPE: TQFP144  LEVEL: STD
DEVICE: SYSTEMACE
footprint TQFP144
pins: 1 VCCH_1 (io), 2 NC1 (io), 3 CFREG (io), 4 CFA00 (io), 5 CFD00 (io), 6 CFD01 (io), 7 CFD08 (io), 8 CFD02 (io), 9 9_GND (io), 10 VCCL_10 (io), 11 CFD09 (io), 12 CFD10 (io), 13 CFCD2 (io), 14 NC2 (io), 15 VCCL_15 (io), 16 NC3 (io), 17 VCCH_17 (io), 18 18_GND (io), 19 NC4 (io), 20 NC5 (io), 21 NC6 (io), 22 NC7 (io), 23 NC8 (io), 24 NC9 (io), 25 VCCL_25 (io), 26 26_GND (io), 27 NC10 (io), 28 NC11 (io), 29 NC12 (io), 30 NC13 (io), 31 NC14 (io), 32 NC15 (io), 33 RESET_B (io), 34 NC16 (io), 35 35_GND (io), 36 NC17 (io), 37 VCCH_37 (io), 38 NC18 (io), 39 MPBRDY (io), 40 NC19 (io), 41 MPIRQ (io), 42 MPCE (io), 43 MPA06 (io), 44 MPA05 (io), 45 MPA04 (io), 46 46_GND (io), 47 MPD15 (io), 48 MPD14 (io), 49 MPD13 (io), 50 MPD12 (io), 51 MPD11 (io), 52 MPD10 (io), 53 MPD09 (io), 54 54_GND (io), 55 VCCH_55 (io), 56 MPD08 (io), 57 VCCL_57 (io), 58 MPD07 (io), 59 MPD06 (io), 60 MPD05 (io), 61 MPD04 (io), 62 MPD03 (io), 63 MPD02 (io), 64 64_GND (io), 65 MPD01 (io), 66 MPD00 (io), 67 MPA03 (io), 68 MPA02 (io), 69 MPA01 (io), 70 MPA00 (io), 71 NC20 (io), 72 POR_RESET (io), 73 VCCH_73 (io), 74 POR_TEST (io), 75 75_GND (io), 76 MPWE (io), 77 MPOE (io), 78 CFGINIT (io), 79 CFGPROG (io), 80 CFGTCK (io), 81 CFGTDI (io), 82 CFGTDO (io), 83 83_GND (io), 84 VCCL_84 (io), 85 CFGTMS (io), 86 CFGADDR0 (io), 87 CFGADDR1 (io), 88 CFGADDR2 (io), 89 CFGMODEPIN (io), 90 NC21 (io), 91 91_GND (io), 92 VCCH_92 (io), 93 CLK (io), 94 VCCL_94 (io), 95 STATLED (io), 96 ERRLED (io), 97 TSTTDO (io), 98 TSTTMS (io), 99 VCCL_99 (io), 100 100_GND (io), 101 TSTTCK (io), 102 TSTTDI (io), 103 CFCD1 (io), 104 CFD03 (io), 105 CFD11 (io), 106 CFD04 (io), 107 CFD12 (io), 108 POR_BYPASS (io), 109 VCCH_109 (io), 110 110_GND (io), 111 111_GND (io), 112 112_GND (io), 113 CFD05 (io), 114 CFD13 (io), 115 CFD06 (io), 116 CFD14 (io), 117 CFD07 (io), 118 CFD15 (io), 119 CFCE1 (io), 120 120_GND (io), 121 CFA10 (io), 122 NC22 (io), 123 CFOE (io), 124 NC23 (io), 125 CFA09 (io), 126 VCCL_126 (io), 127 NC24 (io), 128 VCCH_128 (io), 129 129_GND (io), 130 CFA08 (io), 131 CFWE (io), 132 CFA07 (io), 133 CFGRSVD (io), 134 CFA06 (io), 135 CFA05 (io), 136 136_GND (io), 137 CFA04 (io), 138 CFCE2 (io), 139 CFA03 (io), 140 CFWAIT (io), 141 CFA02 (io), 142 CFA01 (io), 143 NC25 (io), 144 144_GND (io)
text: (DIE DOWN)

## TL1963.1
designator U?, comment value ADJ  (hidden comment: LT1790)
DEVICE: LT1790
pins: 1 SHDN_B (out), 2 IN (out), 3 GND, 4 OUT (out), 5 SNS_ADJ (out), 6 GNDTAB

## TL1963A-18DCQR.1
designator U?, comment PKG_TYPE: SOT223-6  MANF_P/N: TL1963A-18DCQR  (hidden comment: TL1963A_18DCQR_SOT223-6)
MANF: TI; DEVICE: TL1963A_18DCQR_SOT223-6
footprint SOT223-6
pins: 1 SHDN_N (io), 2 IN (io), 3 GND1 (io), 4 OUT (io), 5 SNS_ADJ (io), 6 GND2 (io)

## TPS3808.1
designator U?, comment TPS3808
MANF_PN: TPS3808G33DBVT; MANF: TI; LEVEL: STD; PKG_TYPE: SOT23-6; DEVICE: TPS3808
footprint SOT23-6
pins: 1 RESET_N (io), 2 GND (io), 3 MR_N (io), 4 CT (io), 5 SENSE (io), 6 VDD (io)

## TPS51200.1
designator U?, comment XX  PKG_TYPE: MSOP10
MANF_PN: TPS51200; MANF: TI; LEVEL: STD; DEVICE: XX; VALUE: XX
footprint MSOP10
pins: 1 REFIN (io), 2 VLDOIN (io), 3 VO (io), 4 PGND (io), 5 VOSNS (io), 6 REFOUT (io), 7 EN (io), 8 GND (io), 9 PGOOD (io), 10 VIN (io), 11 PWRPAD (io)

## TPS73633DBVT.1
designator U?, comment TPS73633DBVT  PKG_TYPE: SOT23-5
LEVEL: STD; PART_SPEC: TPS73633DBVT; DEVICE: TPS73633DBVT
footprint SOT23-5
pins: 1 IN (io), 2 GND (io), 3 EN (io), 4 NR_FB (io), 5 OUT (io)

## TS321IDVBR.1
designator U?, comment TS321IDVBR  PKG_TYPE: SOT-23-5
LEVEL: STD; DEVICE: TS321IDVBR
footprint SOT-23-5
pins: 1 OUT (io), 2 VCC_N (io), 3 IN_P (io), 4 IN_N (io), 5 VCC_P (io)
text: +; -

## UCD7230RGW_A.1
designator U?, comment UCD7230RGW
MANF: TI; VALUE: VAL; LEVEL: STD; PKG_TYPE: S-PQFP-N20; DEVICE: UCD7230RGW
footprint S-PQFP-N20
pins: 1 3V3 (out), 2 AGND (in), 3 DLY (in), 4 ILIM (in), 5 CLF (out), 6 IO (in), 7 A0 (out), 8 POS (in), 9 NEG (in), 10 PGND (in), 11 OUT2 (out), 12 PVDD (in), 13 BST (in), 14 OUT1 (out), 15 SW (io), 16 CBIAS (in), 17 CS+ (in), 18 VDD (in), 19 SRE (in), 20 IN (in), 21 PWRPAD (in)

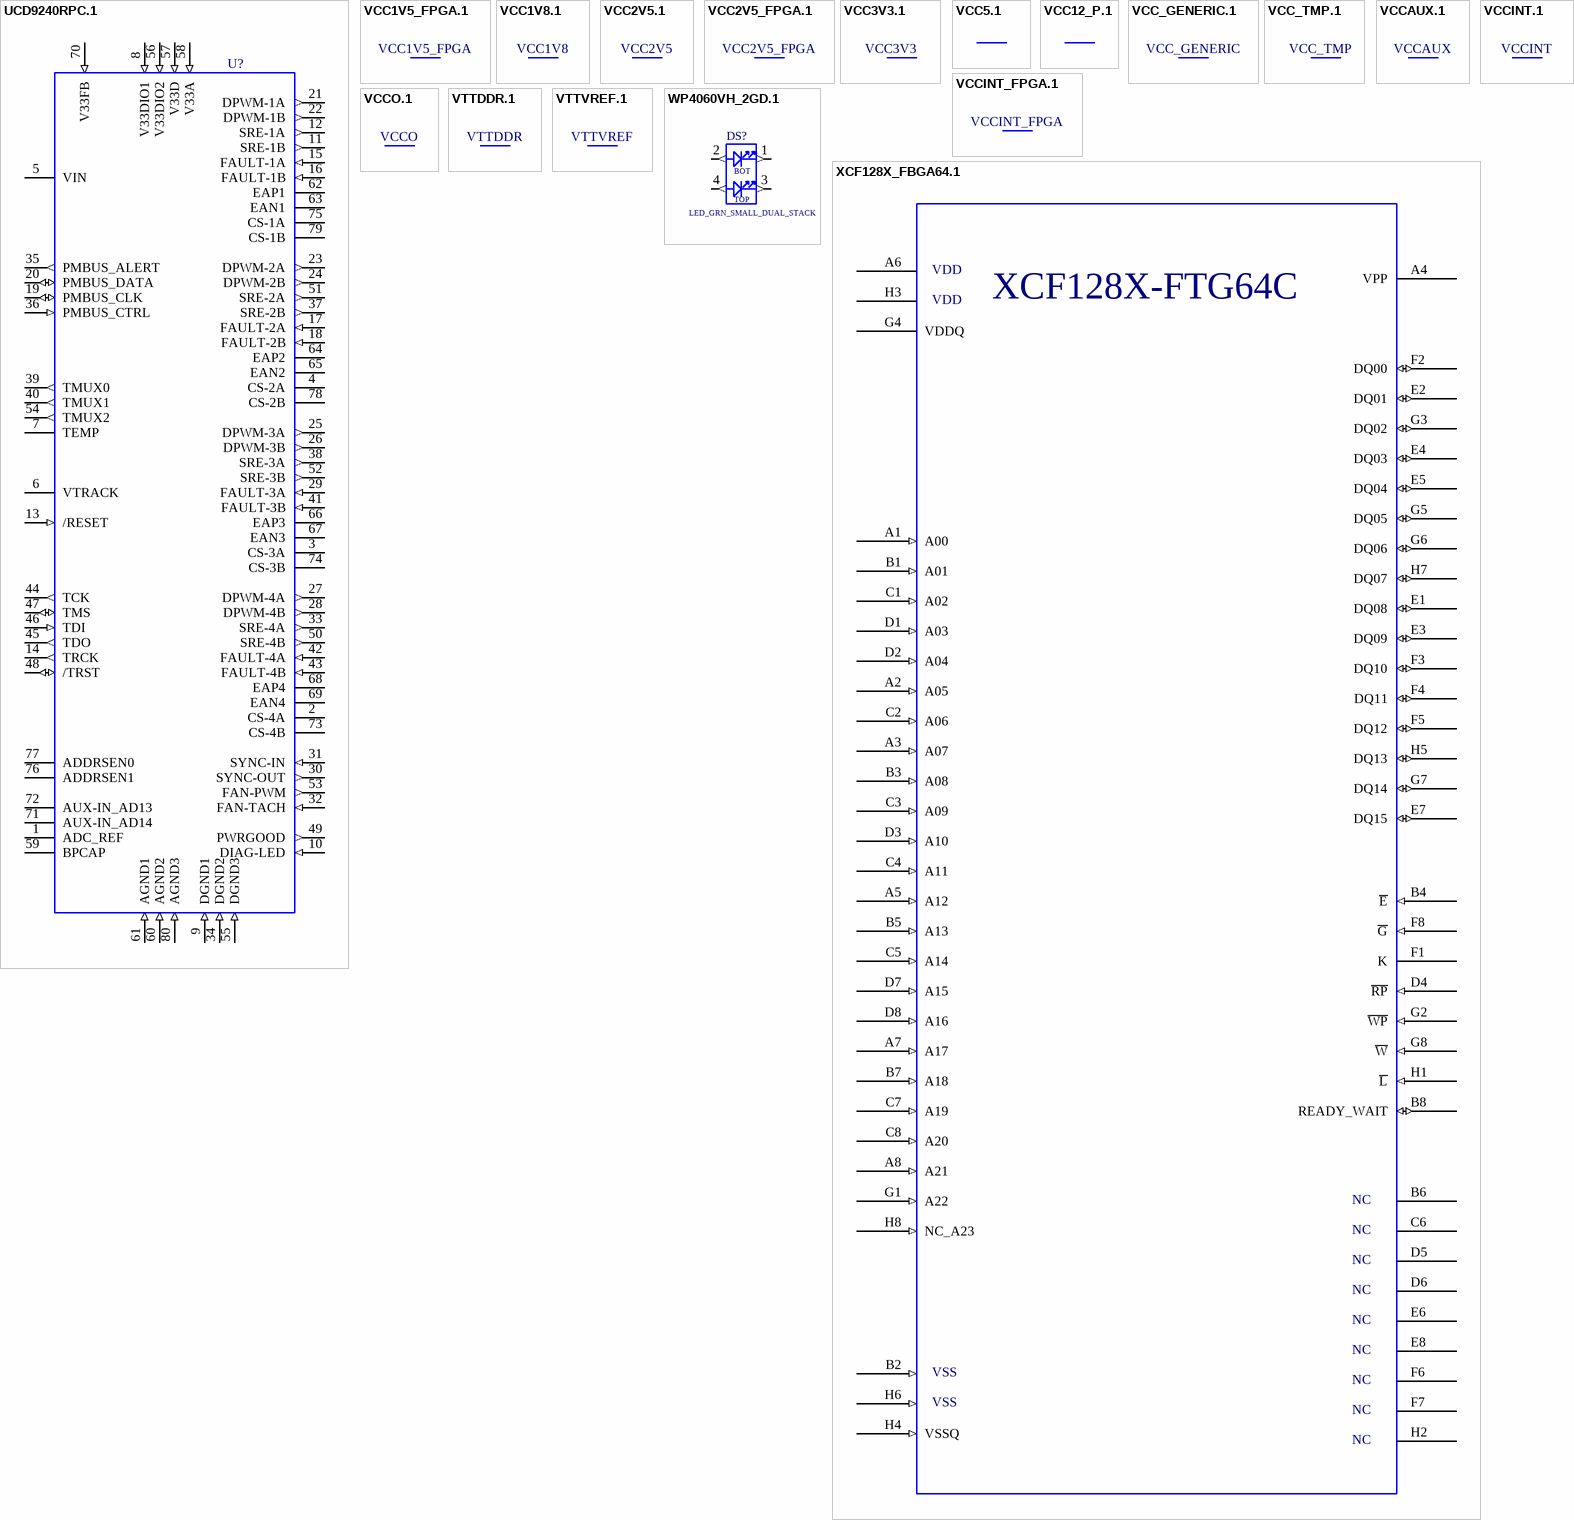
[diagram p24: symbols UCD9240RPC.1 to XCF128X_FBGA64.1]

## UCD9240RPC.1
designator U?, comment DEVICE  (value not drawn)
VALUE: VAL; MANF: TI; LEVEL: STD; DEVICE: DEVICE
pins: 1 ADC_REF, 2 CS-4A, 3 CS-3A, 4 CS-2A, 5 VIN, 6 VTRACK, 7 TEMP, 8 V33DIO1 (in), 9 DGND1 (in), 10 DIAG-LED (in), 11 SRE-1B (out), 12 SRE-1A (out), 13 /RESET (in), 14 TRCK (out), 15 FAULT-1A (in), 16 FAULT-1B (in), 17 FAULT-2A (in), 18 FAULT-2B (in), 19 PMBUS_CLK (io), 20 PMBUS_DATA (io), 21 DPWM-1A (out), 22 DPWM-1B (out), 23 DPWM-2A (out), 24 DPWM-2B (out), 25 DPWM-3A (out), 26 DPWM-3B (out), 27 DPWM-4A (out), 28 DPWM-4B (out), 29 FAULT-3A (in), 30 SYNC-OUT (out), 31 SYNC-IN (in), 32 FAN-TACH (in), 33 SRE-4A (out), 34 DGND2 (in), 35 PMBUS_ALERT (out), 36 PMBUS_CTRL (in), 37 SRE-2B (out), 38 SRE-3A (out), 39 TMUX0 (out), 40 TMUX1 (out), 41 FAULT-3B (in), 42 FAULT-4A (in), 43 FAULT-4B (in), 44 TCK (out), 45 TDO (out), 46 TDI (in), 47 TMS (io), 48 /TRST (io), 49 PWRGOOD (out), 50 SRE-4B (out), 51 SRE-2A (out), 52 SRE-3B (out), 53 FAN-PWM (out), 54 TMUX2 (out), 55 DGND3 (in), 56 V33DIO2 (in), 57 V33D (in), 58 V33A (in), 59 BPCAP, 60 AGND2 (in), 61 AGND1 (in), 62 EAP1, 63 EAN1, 64 EAP2, 65 EAN2, 66 EAP3, 67 EAN3, 68 EAP4, 69 EAN4, 70 V33FB (in), 71 AUX-IN_AD14, 72 AUX-IN_AD13, 73 CS-4B, 74 CS-3B, 75 CS-1A, 76 ADDRSEN1, 77 ADDRSEN0, 78 CS-2B, 79 CS-1B, 80 AGND3 (in)

## VCC1V5_FPGA.1
designator *  NETNAME: VCC1V5_FPGA  (hidden comment: *)

## VCC1V8.1
designator *  NETNAME: VCC1V8  (hidden comment: *)

## VCC2V5.1
designator *  NETNAME: VCC2V5  (hidden comment: *)

## VCC2V5_FPGA.1
designator *  NETNAME: VCC2V5_FPGA  (hidden comment: *)

## VCC3V3.1
designator *  NETNAME: VCC3V3  (hidden comment: *)

## VCC5.1
designator *, comment VCC5  (value not drawn)
VOLTAGE: ?V; PKG_TYPE: XXXX; VALUE: UF?; NETNAME: VCC5; DEVICE: VCC5; MANFP/N: XXXX; MANF: XXXX; DIST: XXXX; PRICE: XXXX; TOLERANCE: XXXX
footprint XXXX

## VCC12_P.1
designator *  (value not drawn)
NETNAME: VCC12_P

## VCC_GENERIC.1
designator *  NETNAME: VCC_GENERIC  (hidden comment: *)

## VCC_TMP.1
designator *  NETNAME: VCC_TMP  (hidden comment: *)

## VCCAUX.1
designator *  NETNAME: VCCAUX  (hidden comment: *)

## VCCINT.1
designator *  NETNAME: VCCINT  (hidden comment: *)

## VCCINT_FPGA.1
designator *  NETNAME: VCCINT_FPGA  (hidden comment: *)

## VCCO.1
designator *  NETNAME: VCCO  (hidden comment: *)

## VTTDDR.1
designator *  NETNAME: VTTDDR  (hidden comment: *)

## VTTVREF.1
designator *  NETNAME: VTTVREF  (hidden comment: *)

## WP4060VH_2GD.1
designator DS?, comment LED_GRN_SMALL_DUAL_STACK
MANF_P/N: WP4060VH/2GD; PKG_TYPE: LED_GRN_SMALL_DUAL_STACK; DEVICE: LED_GRN_SMALL_DUAL_STACK; DATASHEET: \\FENPHEN\AFX\AFX\BOARD_PROJECTS\LIBRARY\DATASHEETS\DIODE\WP4060VH-2GD.PDF; VALUE: LED_GRN_SMALL_DUAL_STACK
footprint LED_GRN_SMALL_DUAL_STACK
pins: 1 2 (out), 2 1 (out), 3 4 (out), 4 3 (out)
text: BOT; TOP

## XCF128X_FBGA64.1
designator U?, comment FTBGA64  (value not drawn)
PKG_TYPE: TBGA64; LEVEL: STD; DEVICE: FTBGA64
footprint TBGA64
pins: A1 A00 (in), A2 A05 (in), A3 A07 (in), A4 VPP, A5 A12 (in), A6 VDD_1, A7 A17 (in), A8 A21 (in), B1 A01 (in), B2 VSS_1 (in), B3 A08 (in), B4 ~{E} (in), B5 A13 (in), B6 NC_0, B7 A18 (in), B8 READY_WAIT (io), C1 A02 (in), C2 A06 (in), C3 A09 (in), C4 A11 (in), C5 A14 (in), C6 NC_1, C7 A19 (in), C8 A20 (in), D1 A03 (in), D2 A04 (in), D3 A10 (in), D4 ~{RP} (in), D5 NC_2, D6 NC_3, D7 A15 (in), D8 A16 (in), E1 DQ08 (io), E2 DQ01 (io), E3 DQ09 (io), E4 DQ03 (io), E5 DQ04 (io), E6 NC_4, E7 DQ15 (io), E8 NC_5, F1 K, F2 DQ00 (io), F3 DQ10 (io), F4 DQ11 (io), F5 DQ12 (io), F6 NC_6, F7 NC_7, F8 ~{G} (in), G1 A22 (in), G2 ~{WP} (in), G3 DQ02 (io), G4 VDDQ, G5 DQ05 (io), G6 DQ06 (io), G7 DQ14 (io), G8 ~{W} (in), H1 ~{L} (in), H2 NC_8, H3 VDD_2, H4 VSSQ (in), H5 DQ13 (io), H6 VSS_2 (in), H7 DQ07 (io), H8 NC_A23 (in)
text: VDD; XCF128X-FTG64C; NC; VSS